# EAGLE library part MAX3082 (library MAX308x)
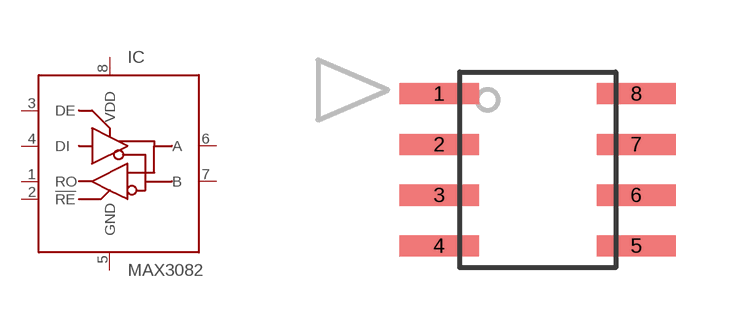
[diagram p1: symbol with the pads of SO8-N; footprint SO8-N]

Designator prefix IC

## MAX3082CSA, MAX3082ESA  [SO8-N]
1  RO  out
2  !RE  in
3  DE  in
4  DI  in
5  GND  pwr
6  A
7  B
8  VDD  in

## Footprint SO8-N (pad centres in mm)
smd 1.98 x 0.53: 1 -2.465,1.905; 2 -2.465,0.635; 3 -2.465,-0.635; 4 -2.465,-1.905; 5 2.465,-1.905; 6 2.465,-0.635; 7 2.465,0.635; 8 2.465,1.905